# Altium integrated library Zilog Multiprocessor Interface.IntLib: 6 symbols
Pins are listed as number, name and electrical type; pins without a type are passive.

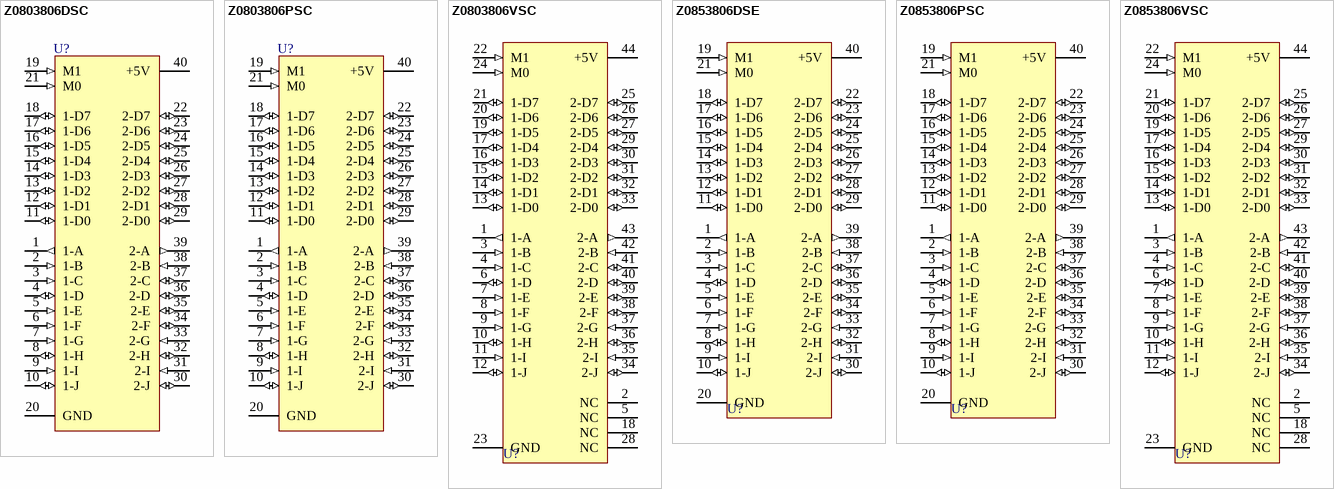
[diagram p0: symbols Z0803806DSC to Z0853806VSC]

## Z0803806DSC
designator U?
FIFO Input/Output Interface Unit; Published: 15-Apr-2002; LatestRevisionDate: 04-Mar-2005; LatestRevisionNote: Stylized 3D Model Added.; DatasheetVersion: Oct-1988; PackageVersion: 1999; PackageReference: CerDIP40; Publisher: Altium Limited; PackageDescription: DIP; 40 Leads; Row Spacing 15.24 mm; Pitch 2.54 mm; ComponentLink1Description: Manufacturer Link; ComponentLink1URL: http://www.zilog.com/
footprint CerDIP40 (DIP; 40 Leads; Row Spacing 15.24 mm; Pitch 2.54 mm)
3D model PDIP40 (DIP; 40 Leads; Row Spacing 15.24 mm; Pitch 2.54 mm)
pins: 1 1-A (out), 2 1-B (in), 3 1-C (in), 4 1-D (io), 5 1-E (in), 6 1-F (in), 7 1-G (in), 8 1-H (io), 9 1-I (in), 10 1-J (io), 11 1-D0 (io), 12 1-D1 (io), 13 1-D2 (io), 14 1-D3 (io), 15 1-D4 (io), 16 1-D5 (io), 17 1-D6 (io), 18 1-D7 (io), 19 M1 (in), 20 GND (power), 21 M0 (in), 22 2-D7 (io), 23 2-D6 (io), 24 2-D5 (io), 25 2-D4 (io), 26 2-D3 (io), 27 2-D2 (io), 28 2-D1 (io), 29 2-D0 (io), 30 2-J (io), 31 2-I (in), 32 2-H (io), 33 2-G (in), 34 2-F (io), 35 2-E (io), 36 2-D (io), 37 2-C (io), 38 2-B (in), 39 2-A (out), 40 +5V (power)

## Z0803806PSC
designator U?
FIFO Input/Output Interface Unit; Published: 15-Apr-2002; LatestRevisionDate: 04-Mar-2005; LatestRevisionNote: Stylized 3D Model Added.; DatasheetVersion: Oct-1988; PackageVersion: Jun-1999; PackageReference: PDIP40; Publisher: Altium Limited; PackageDescription: DIP; 40 Leads; Row Spacing 15.24 mm; Pitch 2.54 mm; ComponentLink1Description: Manufacturer Link; ComponentLink1URL: http://www.zilog.com/
footprint PDIP40 (DIP; 40 Leads; Row Spacing 15.24 mm; Pitch 2.54 mm)
3D model PDIP40 (DIP; 40 Leads; Row Spacing 15.24 mm; Pitch 2.54 mm)
pins: 1 1-A (out), 2 1-B (in), 3 1-C (in), 4 1-D (io), 5 1-E (in), 6 1-F (in), 7 1-G (in), 8 1-H (io), 9 1-I (in), 10 1-J (io), 11 1-D0 (io), 12 1-D1 (io), 13 1-D2 (io), 14 1-D3 (io), 15 1-D4 (io), 16 1-D5 (io), 17 1-D6 (io), 18 1-D7 (io), 19 M1 (in), 20 GND (power), 21 M0 (in), 22 2-D7 (io), 23 2-D6 (io), 24 2-D5 (io), 25 2-D4 (io), 26 2-D3 (io), 27 2-D2 (io), 28 2-D1 (io), 29 2-D0 (io), 30 2-J (io), 31 2-I (in), 32 2-H (io), 33 2-G (in), 34 2-F (io), 35 2-E (io), 36 2-D (io), 37 2-C (io), 38 2-B (in), 39 2-A (out), 40 +5V (power)

## Z0803806VSC
designator U?
FIFO Input/Output Interface Unit; Note: Pin(s) 33 "No Connection" and not drawn.; Published: 15-Apr-2002; LatestRevisionDate: 13-Apr-2006; LatestRevisionNote: IPC-7351 Footprint Added.; DatasheetVersion: Oct-1988; PackageReference: PCC44; Publisher: Altium Limited; PackageDescription: 44-Pin Leaded Chip Carrier 1.27 mm Pitch; Code_IPC: PLCC-44; ComponentLink1Description: Manufacturer Link; ComponentLink1URL: http://www.zilog.com/
footprint PCC44_N (Leaded Chip Carrier, 44-Leads, Body 16.6x16.6mm, Pitch 1.27mm, IPC Medium Density)
footprint PCC44_L (Leaded Chip Carrier, 44-Leads, Body 16.6x16.6mm, Pitch 1.27mm, IPC High Density)
footprint PCC44_M (Leaded Chip Carrier, 44-Leads, Body 16.6x16.6mm, Pitch 1.27mm, IPC Low Density)
3D model Z08038-PCC44 (44-Pin Leaded Chip Carrier 1.27 mm Pitch)
pins: 1 1-A (out), 2 NC, 3 1-B (in), 4 1-C (in), 5 NC, 6 1-D (io), 7 1-E (in), 8 1-F (in), 9 1-G (in), 10 1-H (io), 11 1-I (in), 12 1-J (io), 13 1-D0 (io), 14 1-D1 (io), 15 1-D2 (io), 16 1-D3 (io), 17 1-D4 (io), 18 NC, 19 1-D5 (io), 20 1-D6 (io), 21 1-D7 (io), 22 M1 (in), 23 GND (power), 24 M0 (in), 25 2-D7 (io), 26 2-D6 (io), 27 2-D5 (io), 28 NC, 29 2-D4 (io), 30 2-D3 (io), 31 2-D2 (io), 32 2-D1 (io), 33 2-D0 (io), 34 2-J (io), 35 2-I (in), 36 2-H (io), 37 2-G (in), 38 2-F (io), 39 2-E (io), 40 2-D (io), 41 2-C (io), 42 2-B (in), 43 2-A (out), 44 +5V (power)

## Z0853806DSE
designator U?
FIFO Input/Output Interface Unit; Published: 15-Apr-2002; LatestRevisionDate: 04-Mar-2005; LatestRevisionNote: Stylized 3D Model Added.; DatasheetVersion: Oct-1988; PackageVersion: 1999; PackageReference: CerDIP40; Publisher: Altium Limited; PackageDescription: DIP; 40 Leads; Row Spacing 15.24 mm; Pitch 2.54 mm; ComponentLink1Description: Manufacturer Link; ComponentLink1URL: http://www.zilog.com/
footprint CerDIP40 (DIP; 40 Leads; Row Spacing 15.24 mm; Pitch 2.54 mm)
3D model PDIP40 (DIP; 40 Leads; Row Spacing 15.24 mm; Pitch 2.54 mm)
pins: 1 1-A (out), 2 1-B (in), 3 1-C (in), 4 1-D (io), 5 1-E (in), 6 1-F (in), 7 1-G (in), 8 1-H (io), 9 1-I (in), 10 1-J (io), 11 1-D0 (io), 12 1-D1 (io), 13 1-D2 (io), 14 1-D3 (io), 15 1-D4 (io), 16 1-D5 (io), 17 1-D6 (io), 18 1-D7 (io), 19 M1 (in), 20 GND (power), 21 M0 (in), 22 2-D7 (io), 23 2-D6 (io), 24 2-D5 (io), 25 2-D4 (io), 26 2-D3 (io), 27 2-D2 (io), 28 2-D1 (io), 29 2-D0 (io), 30 2-J (io), 31 2-I (in), 32 2-H (io), 33 2-G (in), 34 2-F (io), 35 2-E (io), 36 2-D (io), 37 2-C (io), 38 2-B (in), 39 2-A (out), 40 +5V (power)

## Z0853806PSC
designator U?
FIFO Input/Output Interface Unit; Published: 15-Apr-2002; LatestRevisionDate: 04-Mar-2005; LatestRevisionNote: Stylized 3D Model Added.; DatasheetVersion: Oct-1988; PackageVersion: Jun-1999; PackageReference: PDIP40; Publisher: Altium Limited; PackageDescription: DIP; 40 Leads; Row Spacing 15.24 mm; Pitch 2.54 mm; ComponentLink1Description: Manufacturer Link; ComponentLink1URL: http://www.zilog.com/
footprint PDIP40 (DIP; 40 Leads; Row Spacing 15.24 mm; Pitch 2.54 mm)
3D model PDIP40 (DIP; 40 Leads; Row Spacing 15.24 mm; Pitch 2.54 mm)
pins: 1 1-A (out), 2 1-B (in), 3 1-C (in), 4 1-D (io), 5 1-E (in), 6 1-F (in), 7 1-G (in), 8 1-H (io), 9 1-I (in), 10 1-J (io), 11 1-D0 (io), 12 1-D1 (io), 13 1-D2 (io), 14 1-D3 (io), 15 1-D4 (io), 16 1-D5 (io), 17 1-D6 (io), 18 1-D7 (io), 19 M1 (in), 20 GND (power), 21 M0 (in), 22 2-D7 (io), 23 2-D6 (io), 24 2-D5 (io), 25 2-D4 (io), 26 2-D3 (io), 27 2-D2 (io), 28 2-D1 (io), 29 2-D0 (io), 30 2-J (io), 31 2-I (in), 32 2-H (io), 33 2-G (in), 34 2-F (io), 35 2-E (io), 36 2-D (io), 37 2-C (io), 38 2-B (in), 39 2-A (out), 40 +5V (power)

## Z0853806VSC
designator U?
FIFO Input/Output Interface Unit; Published: 15-Apr-2002; LatestRevisionDate: 13-Apr-2006; LatestRevisionNote: IPC-7351 Footprint Added.; DatasheetVersion: Oct-1988; PackageReference: PCC44; Publisher: Altium Limited; PackageDescription: 44-Pin Leaded Chip Carrier 1.27 mm Pitch; Code_IPC: PLCC-44; ComponentLink1Description: Manufacturer Link; ComponentLink1URL: http://www.zilog.com/
footprint PCC44_N (Leaded Chip Carrier, 44-Leads, Body 16.6x16.6mm, Pitch 1.27mm, IPC Medium Density)
footprint PCC44_L (Leaded Chip Carrier, 44-Leads, Body 16.6x16.6mm, Pitch 1.27mm, IPC High Density)
footprint PCC44_M (Leaded Chip Carrier, 44-Leads, Body 16.6x16.6mm, Pitch 1.27mm, IPC Low Density)
3D model Z08538-PCC44 (44-Pin Leaded Chip Carrier 1.27 mm Pitch)
pins: 1 1-A (out), 2 NC, 3 1-B (in), 4 1-C (in), 5 NC, 6 1-D (io), 7 1-E (in), 8 1-F (in), 9 1-G (in), 10 1-H (io), 11 1-I (in), 12 1-J (io), 13 1-D0 (io), 14 1-D1 (io), 15 1-D2 (io), 16 1-D3 (io), 17 1-D4 (io), 18 NC, 19 1-D5 (io), 20 1-D6 (io), 21 1-D7 (io), 22 M1 (in), 23 GND (power), 24 M0 (in), 25 2-D7 (io), 26 2-D6 (io), 27 2-D5 (io), 28 NC, 29 2-D4 (io), 30 2-D3 (io), 31 2-D2 (io), 32 2-D1 (io), 33 2-D0 (io), 34 2-J (io), 35 2-I (in), 36 2-H (io), 37 2-G (in), 38 2-F (io), 39 2-E (io), 40 2-D (io), 41 2-C (io), 42 2-B (in), 43 2-A (out), 44 +5V (power)